# Altium integrated library Analog Devices Data Converters Digital-to-Analog Converters.IntLib: 2231 symbols (part 161 of 181)
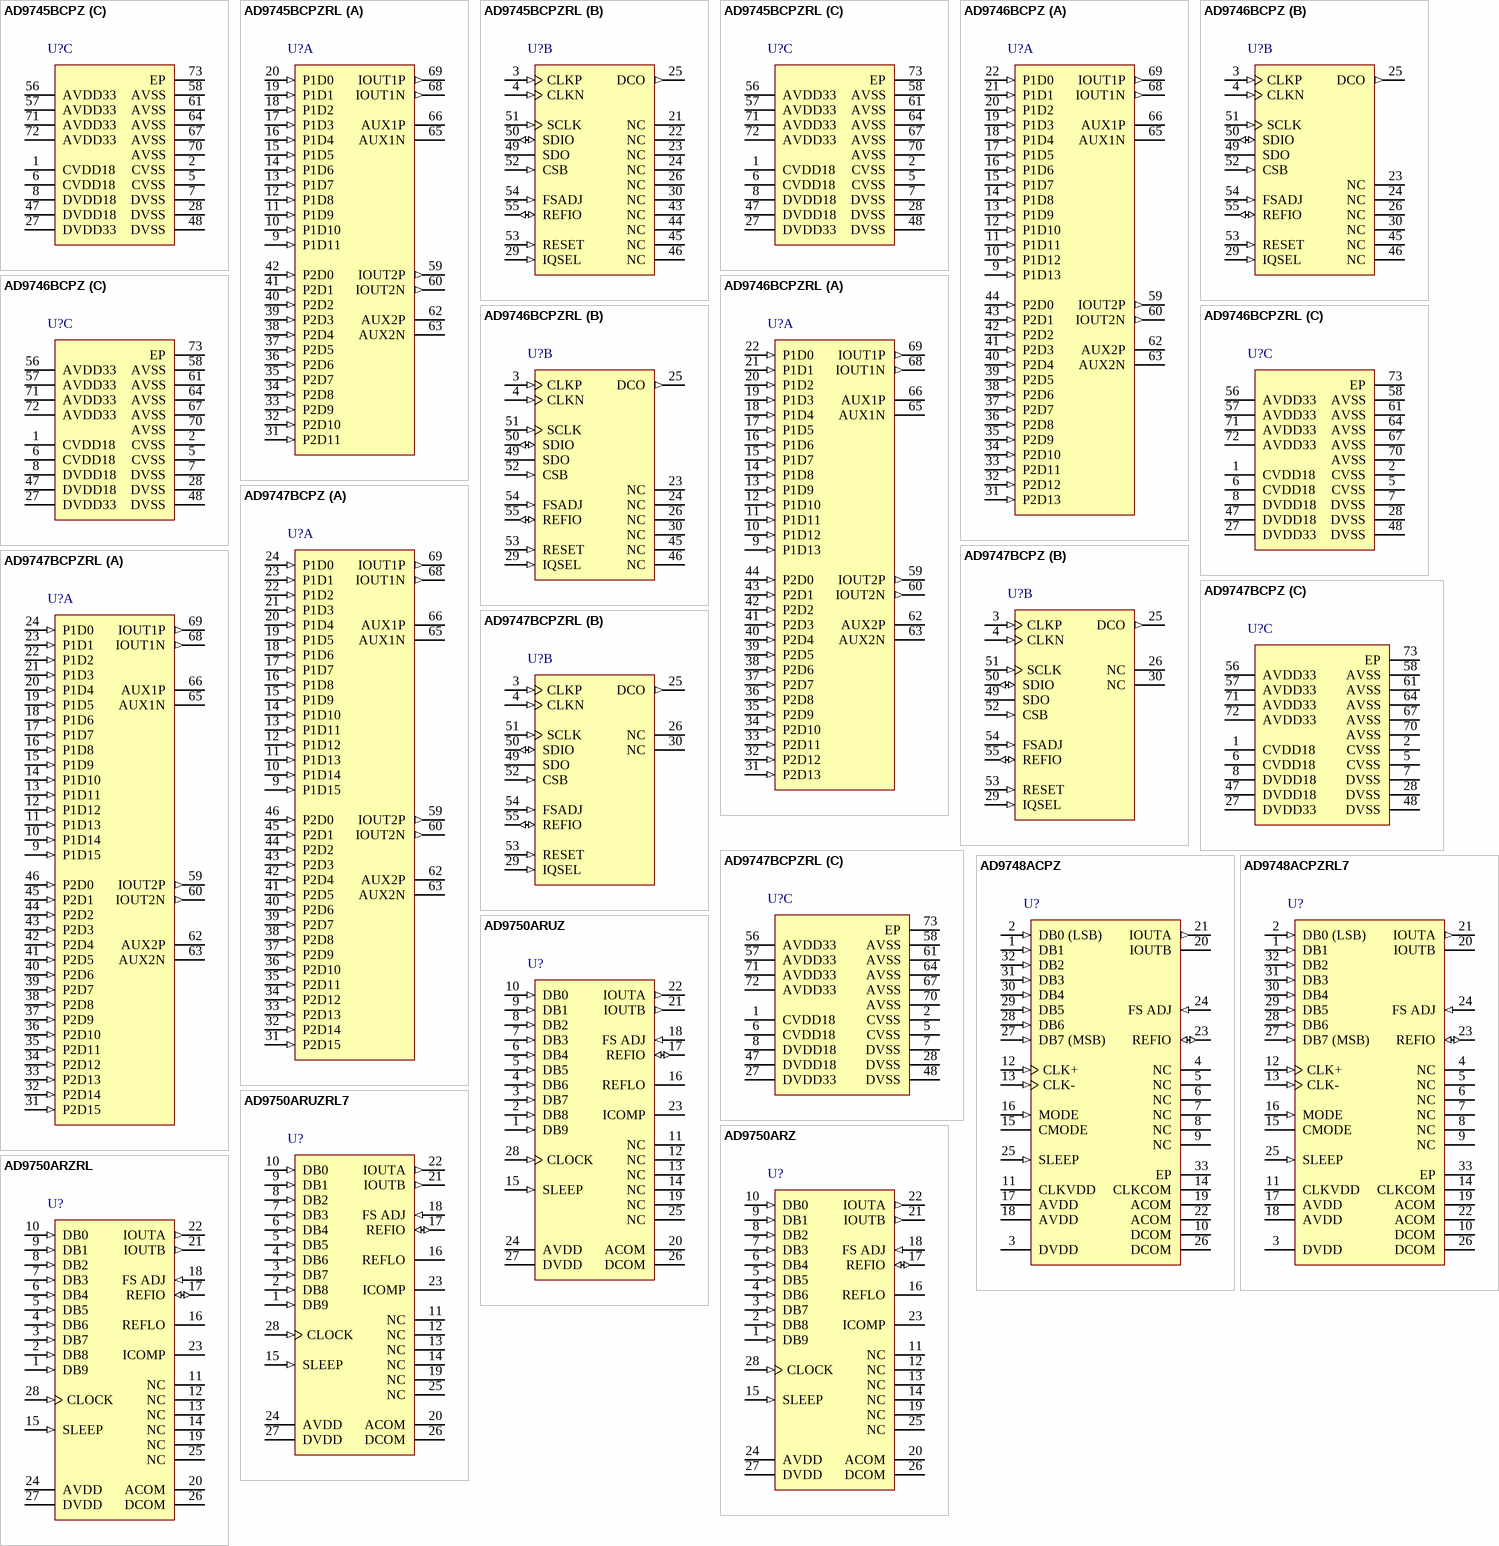
[diagram p274: symbols AD9745BCPZ to AD9750ARZRL]

## AD9748ACPZRL7
designator U?
Single 8-Bit TxDAC, 210 Msps, -40 to +85 degC, CP-32-2, Pb-Free, Reel; Generic Part Number: AD9748; Manufacturer: Analog Devices; PartNumber: AD9748ACPZRL7; # DAC Outputs: 1; Max V+: 3.6V; Op Pwr Diss: 145mW; Resolution (Bits): 8; Settling Time: 11ns; Single Supply: Yes; DatasheetVersion: Rev.A; PackageVersion: Jan-2005; PackageReference: CP-32-2; PackageDescription: 32-Lead Lead Frame Chip Scale Package [LFCSP_VQ] 5 x 5 mm Body, Very Thin Quad; Supplier 1: Digi-Key; Supplier Part Number 1: AD9748ACPZRL7-ND; Supplier 2: Newark; Supplier Part Number 2: 74R6039; Supplier 3: Mouser; Supplier Part Number 3: 584-AD9748ACPZR7; Packing: Reel; RoHS: Y; Mounting Technology: Surface Mount; Code_JEDEC: MO-220-VHHD-2; ComponentLink1Description: Manufacturer URL; ComponentLink1URL: http://www.analog.com/en/index.html; ComponentLink2Description: Datasheet; ComponentLink2URL: http://www.analog.com/static/imported-files/data_sheets/AD9748.pdf; ComponentLink3Description: Package Specification; ComponentLink3URL: http://www.analog.com/static/imported-files/packages/414143737956480539664569CP_32_2.pdf; ComponentLink4Description: Product URL; ComponentLink4URL: http://www.analog.com/en/digital-to-analog-converters/da-converters/ad9748/products/product.html
footprint CP-32-2_N (QFN, 32-Leads, Body 5x5mm, Pitch 0.5mm, Thermal Pad 3.1x3.1mm, IPC Medium Density)
footprint CP-32-2_L (QFN, 32-Leads, Body 5x5mm, Pitch 0.5mm, Thermal Pad 3.1x3.1mm, IPC High Density)
footprint CP-32-2_M (QFN, 32-Leads, Body 5x5mm, Pitch 0.5mm, Thermal Pad 3.1x3.1mm, IPC Low Density)
pins: 1 DB1 (in) "Data Bit 1.", 2 DB0 (LSB) (in) "Least Significant Data Bit (LSB).", 3 DVDD (power) "Digital Supply Voltage (3.3 V).", 4 NC "No Internal Connection.", 5 NC "No Internal Connection.", 6 NC "No Internal Connection.", 7 NC "No Internal Connection.", 8 NC "No Internal Connection.", 9 NC "No Internal Connection.", 10 DCOM (power) "Digital Common.", 11 CLKVDD (power) "Clock Supply Voltage (3.3 V).", 12 CLK+ (in) "Differential Clock Input.", 13 CLK- (in) "Differential Clock Input.", 14 CLKCOM (power) "Clock Common.", 15 CMODE "Clock Mode Selection. Connect to CLKCOM for single-ended clock receiver (drive CLK+ and float CLK-). Connect to CLKVDD for differential receiver. Float for PECL receiver (terminations on-chip).", 16 MODE (in) "Selects Input Data Format. Connect to DCOM for straight binary, DVDD for twos complement.", 17 AVDD (power) "Analog Supply Voltage (3.3 V).", 18 AVDD (power) "Analog Supply Voltage (3.3 V).", 19 ACOM (power) "Analog Common.", 20 IOUTB "Complementary DAC Current Output. Full-scale current when all data bits are 0s.", 21 IOUTA (out) "DAC Current Output. Full-scale current when all data bits are 1s.", 22 ACOM (power) "Analog Common.", 23 REFIO (io) "Reference Input/Output. Requires 0.1 uF capacitor to ACOM.", 24 FS ADJ (in) "Full-Scale Current Output Adjust.", 25 SLEEP (in) "Power-Down Control Input. Active high. Contains active pull-down circuit; it can be left unterminated if not used.", 26 DCOM (power) "Digital Common.", 27 DB7 (MSB) (in) "Most Significant Data Bit (MSB).", 28 DB6 (in) "Data Bit 2.", 29 DB5 (in) "Data Bit 3.", 30 DB4 (in) "Data Bit 4.", 31 DB3 (in) "Data Bit 5.", 32 DB2 (in) "Data Bit 6.", 33 EP "Exposed Pad."

## AD9750ARUZ
designator U?
Single 10-Bit TxDAC, 125 Msps, -40 to +85 degC, RU-28, Pb-Free, Tube; Generic Part Number: AD9750; Manufacturer: Analog Devices; PartNumber: AD9750ARUZ; # DAC Outputs: 1; Max V+: 5.5V; Op Pwr Diss: 230mW; Resolution (Bits): 10; Settling Time: 35ns; Single Supply: Yes; DatasheetVersion: Rev.0; PackageVersion: 2005; PackageReference: RU-28; PackageDescription: 28-Lead Thin Shrink Small Outline Package [TSSOP]; Supplier 1: Digi-Key; Supplier Part Number 1: AD9750ARUZ-ND; Supplier 2: Mouser; Supplier Part Number 2: 584-AD9750ARUZ; Packing: Tube; RoHS: Y; Mounting Technology: Surface Mount; Code_JEDEC: MO-153-AE; ComponentLink1Description: Manufacturer URL; ComponentLink1URL: http://www.analog.com/en/index.html; ComponentLink2Description: Datasheet; ComponentLink2URL: http://www.analog.com/static/imported-files/data_sheets/AD9750.pdf; ComponentLink3Description: Package Specification; ComponentLink3URL: http://www.analog.com/static/imported-files/packages/249854663RU_28.pdf; ComponentLink4Description: Product URL; ComponentLink4URL: http://www.analog.com/en/digital-to-analog-converters/da-converters/ad9750/products/product.html
footprint RU-28_N (TSOP, 28-Leads, Body 9.7x4.4mm, Pitch 0.65mm, IPC Medium Density)
footprint RU-28_L (TSOP, 28-Leads, Body 9.7x4.4mm, Pitch 0.65mm, IPC High Density)
footprint RU-28_M (TSOP, 28-Leads, Body 9.7x4.4mm, Pitch 0.65mm, IPC Low Density)
pins: 1 DB9 (in) "Most Significant Data Bit (MSB).", 2 DB8 (in) "Data Bit 8", 3 DB7 (in) "Data Bit 7", 4 DB6 (in) "Data Bit 6", 5 DB5 (in) "Data Bit 5", 6 DB4 (in) "Data Bit 4", 7 DB3 (in) "Data Bit 3", 8 DB2 (in) "Data Bit 2", 9 DB1 (in) "Data Bit 1", 10 DB0 (in) "Least Significant Data Bit (LSB).", 11 NC "No Internal Connection.", 12 NC "No Internal Connection.", 13 NC "No Internal Connection.", 14 NC "No Internal Connection.", 15 SLEEP (in) "Power-Down Control Input. Active High. Contains active pull-down circuit; it may be left unterminated if not used.", 16 REFLO "Reference Ground when Internal 1.2 V Reference Used. Connect to AVDD to disable internal reference.", 17 REFIO (io) "Reference Input/Output. Serves as reference input when internal reference disabled (i.e., Tie REFLO to AVDD). Serves as 1.2 V reference output when internal reference activated (i.e., Tie REFLO to ACOM). Requires 0.1 uF (See Datasheet)", 18 FS ADJ (in) "Full-Scale Current Output Adjust.", 19 NC "No Internal Connection.", 20 ACOM (power) "Analog Common.", 21 IOUTB (out) "Complementary DAC Current Output. Full-scale current when all data bits are 0s.", 22 IOUTA (out) "DAC Current Output. Full-scale current when all data bits are 1s.", 23 ICOMP "Internal Bias Node for Switch Driver Circuitry. Decouple to ACOM with 0.1 uF capacitor.", 24 AVDD (power) "Analog Supply Voltage (+4.5 V to +5.5 V).", 25 NC "No Internal Connection.", 26 DCOM (power) "Digital Common.", 27 DVDD (power) "Digital Supply Voltage (+2.7 V to +5.5 V).", 28 CLOCK (in) "Clock Input. Data latched on positive edge of clock."

## AD9750ARUZRL7
designator U?
Single 10-Bit TxDAC, 125 Msps, -40 to +85 degC, RU-28, Pb-Free, Reel; Generic Part Number: AD9750; Manufacturer: Analog Devices; PartNumber: AD9750ARUZRL7; # DAC Outputs: 1; Max V+: 5.5V; Op Pwr Diss: 230mW; Resolution (Bits): 10; Settling Time: 35ns; Single Supply: Yes; DatasheetVersion: Rev.0; PackageVersion: 2005; PackageReference: RU-28; PackageDescription: 28-Lead Thin Shrink Small Outline Package [TSSOP]; Supplier 1: Digi-Key; Supplier Part Number 1: AD9750ARUZRL7-ND; Supplier 2: Mouser; Supplier Part Number 2: 584-AD9750ARUZR7; Packing: Reel; RoHS: Y; Mounting Technology: Surface Mount; Code_JEDEC: MO-153-AE; ComponentLink1Description: Manufacturer URL; ComponentLink1URL: http://www.analog.com/en/index.html; ComponentLink2Description: Datasheet; ComponentLink2URL: http://www.analog.com/static/imported-files/data_sheets/AD9750.pdf; ComponentLink3Description: Package Specification; ComponentLink3URL: http://www.analog.com/static/imported-files/packages/249854663RU_28.pdf; ComponentLink4Description: Product URL; ComponentLink4URL: http://www.analog.com/en/digital-to-analog-converters/da-converters/ad9750/products/product.html
footprint RU-28_N (TSOP, 28-Leads, Body 9.7x4.4mm, Pitch 0.65mm, IPC Medium Density)
footprint RU-28_L (TSOP, 28-Leads, Body 9.7x4.4mm, Pitch 0.65mm, IPC High Density)
footprint RU-28_M (TSOP, 28-Leads, Body 9.7x4.4mm, Pitch 0.65mm, IPC Low Density)
pins: 1 DB9 (in) "Most Significant Data Bit (MSB).", 2 DB8 (in) "Data Bit 8", 3 DB7 (in) "Data Bit 7", 4 DB6 (in) "Data Bit 6", 5 DB5 (in) "Data Bit 5", 6 DB4 (in) "Data Bit 4", 7 DB3 (in) "Data Bit 3", 8 DB2 (in) "Data Bit 2", 9 DB1 (in) "Data Bit 1", 10 DB0 (in) "Least Significant Data Bit (LSB).", 11 NC "No Internal Connection.", 12 NC "No Internal Connection.", 13 NC "No Internal Connection.", 14 NC "No Internal Connection.", 15 SLEEP (in) "Power-Down Control Input. Active High. Contains active pull-down circuit; it may be left unterminated if not used.", 16 REFLO "Reference Ground when Internal 1.2 V Reference Used. Connect to AVDD to disable internal reference.", 17 REFIO (io) "Reference Input/Output. Serves as reference input when internal reference disabled (i.e., Tie REFLO to AVDD). Serves as 1.2 V reference output when internal reference activated (i.e., Tie REFLO to ACOM). Requires 0.1 uF (See Datasheet)", 18 FS ADJ (in) "Full-Scale Current Output Adjust.", 19 NC "No Internal Connection.", 20 ACOM (power) "Analog Common.", 21 IOUTB (out) "Complementary DAC Current Output. Full-scale current when all data bits are 0s.", 22 IOUTA (out) "DAC Current Output. Full-scale current when all data bits are 1s.", 23 ICOMP "Internal Bias Node for Switch Driver Circuitry. Decouple to ACOM with 0.1 uF capacitor.", 24 AVDD (power) "Analog Supply Voltage (+4.5 V to +5.5 V).", 25 NC "No Internal Connection.", 26 DCOM (power) "Digital Common.", 27 DVDD (power) "Digital Supply Voltage (+2.7 V to +5.5 V).", 28 CLOCK (in) "Clock Input. Data latched on positive edge of clock."

## AD9750ARZ
designator U?
Single 10-Bit TxDAC, 125 Msps, -40 to +85 degC, RW-28, Pb-Free, Tube; Generic Part Number: AD9750; Manufacturer: Analog Devices; PartNumber: AD9750ARZ; # DAC Outputs: 1; Max V+: 5.5V; Op Pwr Diss: 230mW; Resolution (Bits): 10; Settling Time: 35ns; Single Supply: Yes; DatasheetVersion: Rev.0; PackageVersion: 060706-A; PackageReference: RW-28; PackageDescription: 28-Lead Standard Small Outline Package [SOIC_W]; Supplier 1: Digi-Key; Supplier Part Number 1: AD9750ARZ-ND; Supplier 2: Newark; Supplier Part Number 2: 59K7355; Supplier 3: Mouser; Supplier Part Number 3: 584-AD9750ARZ; Packing: Tube; RoHS: Y; Mounting Technology: Surface Mount; Code_JEDEC: MS-013-AE; ComponentLink1Description: Manufacturer URL; ComponentLink1URL: http://www.analog.com/en/index.html; ComponentLink2Description: Datasheet; ComponentLink2URL: http://www.analog.com/static/imported-files/data_sheets/AD9750.pdf; ComponentLink3Description: Product URL; ComponentLink3URL: http://www.analog.com/en/digital-to-analog-converters/da-converters/ad9750/products/product.html
footprint RW-28_N (SOIC, 28-Leads, Body 17.9x7.5mm, Pitch 1.27mm, IPC Medium Density)
footprint RW-28_L (SOIC, 28-Leads, Body 17.9x7.5mm, Pitch 1.27mm, IPC High Density)
footprint RW-28_M (SOIC, 28-Leads, Body 17.9x7.5mm, Pitch 1.27mm, IPC Low Density)
pins: 1 DB9 (in) "Most Significant Data Bit (MSB).", 2 DB8 (in) "Data Bit 8", 3 DB7 (in) "Data Bit 7", 4 DB6 (in) "Data Bit 6", 5 DB5 (in) "Data Bit 5", 6 DB4 (in) "Data Bit 4", 7 DB3 (in) "Data Bit 3", 8 DB2 (in) "Data Bit 2", 9 DB1 (in) "Data Bit 1", 10 DB0 (in) "Least Significant Data Bit (LSB).", 11 NC "No Internal Connection.", 12 NC "No Internal Connection.", 13 NC "No Internal Connection.", 14 NC "No Internal Connection.", 15 SLEEP (in) "Power-Down Control Input. Active High. Contains active pull-down circuit; it may be left unterminated if not used.", 16 REFLO "Reference Ground when Internal 1.2 V Reference Used. Connect to AVDD to disable internal reference.", 17 REFIO (io) "Reference Input/Output. Serves as reference input when internal reference disabled (i.e., Tie REFLO to AVDD). Serves as 1.2 V reference output when internal reference activated (i.e., Tie REFLO to ACOM). Requires 0.1 uF (See Datasheet)", 18 FS ADJ (in) "Full-Scale Current Output Adjust.", 19 NC "No Internal Connection.", 20 ACOM (power) "Analog Common.", 21 IOUTB (out) "Complementary DAC Current Output. Full-scale current when all data bits are 0s.", 22 IOUTA (out) "DAC Current Output. Full-scale current when all data bits are 1s.", 23 ICOMP "Internal Bias Node for Switch Driver Circuitry. Decouple to ACOM with 0.1 uF capacitor.", 24 AVDD (power) "Analog Supply Voltage (+4.5 V to +5.5 V).", 25 NC "No Internal Connection.", 26 DCOM (power) "Digital Common.", 27 DVDD (power) "Digital Supply Voltage (+2.7 V to +5.5 V).", 28 CLOCK (in) "Clock Input. Data latched on positive edge of clock."

## AD9750ARZRL
designator U?
Single 10-Bit TxDAC, 125 Msps, -40 to +85 degC, RW-28, Pb-Free, Reel; Generic Part Number: AD9750; Manufacturer: Analog Devices; PartNumber: AD9750ARZRL; # DAC Outputs: 1; Max V+: 5.5V; Op Pwr Diss: 230mW; Resolution (Bits): 10; Settling Time: 35ns; Single Supply: Yes; DatasheetVersion: Rev.0; PackageVersion: 060706-A; PackageReference: RW-28; PackageDescription: 28-Lead Standard Small Outline Package [SOIC_W]; Supplier 1: Digi-Key; Supplier Part Number 1: AD9750ARZRL-ND; Supplier 2: Mouser; Supplier Part Number 2: 584-AD9750ARZR; Packing: Reel; RoHS: Y; Mounting Technology: Surface Mount; Code_JEDEC: MS-013-AE; ComponentLink1Description: Manufacturer URL; ComponentLink1URL: http://www.analog.com/en/index.html; ComponentLink2Description: Datasheet; ComponentLink2URL: http://www.analog.com/static/imported-files/data_sheets/AD9750.pdf; ComponentLink3Description: Product URL; ComponentLink3URL: http://www.analog.com/en/digital-to-analog-converters/da-converters/ad9750/products/product.html
footprint RW-28_N (SOIC, 28-Leads, Body 17.9x7.5mm, Pitch 1.27mm, IPC Medium Density)
footprint RW-28_L (SOIC, 28-Leads, Body 17.9x7.5mm, Pitch 1.27mm, IPC High Density)
footprint RW-28_M (SOIC, 28-Leads, Body 17.9x7.5mm, Pitch 1.27mm, IPC Low Density)
pins: 1 DB9 (in) "Most Significant Data Bit (MSB).", 2 DB8 (in) "Data Bit 8", 3 DB7 (in) "Data Bit 7", 4 DB6 (in) "Data Bit 6", 5 DB5 (in) "Data Bit 5", 6 DB4 (in) "Data Bit 4", 7 DB3 (in) "Data Bit 3", 8 DB2 (in) "Data Bit 2", 9 DB1 (in) "Data Bit 1", 10 DB0 (in) "Least Significant Data Bit (LSB).", 11 NC "No Internal Connection.", 12 NC "No Internal Connection.", 13 NC "No Internal Connection.", 14 NC "No Internal Connection.", 15 SLEEP (in) "Power-Down Control Input. Active High. Contains active pull-down circuit; it may be left unterminated if not used.", 16 REFLO "Reference Ground when Internal 1.2 V Reference Used. Connect to AVDD to disable internal reference.", 17 REFIO (io) "Reference Input/Output. Serves as reference input when internal reference disabled (i.e., Tie REFLO to AVDD). Serves as 1.2 V reference output when internal reference activated (i.e., Tie REFLO to ACOM). Requires 0.1 uF (See Datasheet)", 18 FS ADJ (in) "Full-Scale Current Output Adjust.", 19 NC "No Internal Connection.", 20 ACOM (power) "Analog Common.", 21 IOUTB (out) "Complementary DAC Current Output. Full-scale current when all data bits are 0s.", 22 IOUTA (out) "DAC Current Output. Full-scale current when all data bits are 1s.", 23 ICOMP "Internal Bias Node for Switch Driver Circuitry. Decouple to ACOM with 0.1 uF capacitor.", 24 AVDD (power) "Analog Supply Voltage (+4.5 V to +5.5 V).", 25 NC "No Internal Connection.", 26 DCOM (power) "Digital Common.", 27 DVDD (power) "Digital Supply Voltage (+2.7 V to +5.5 V).", 28 CLOCK (in) "Clock Input. Data latched on positive edge of clock."

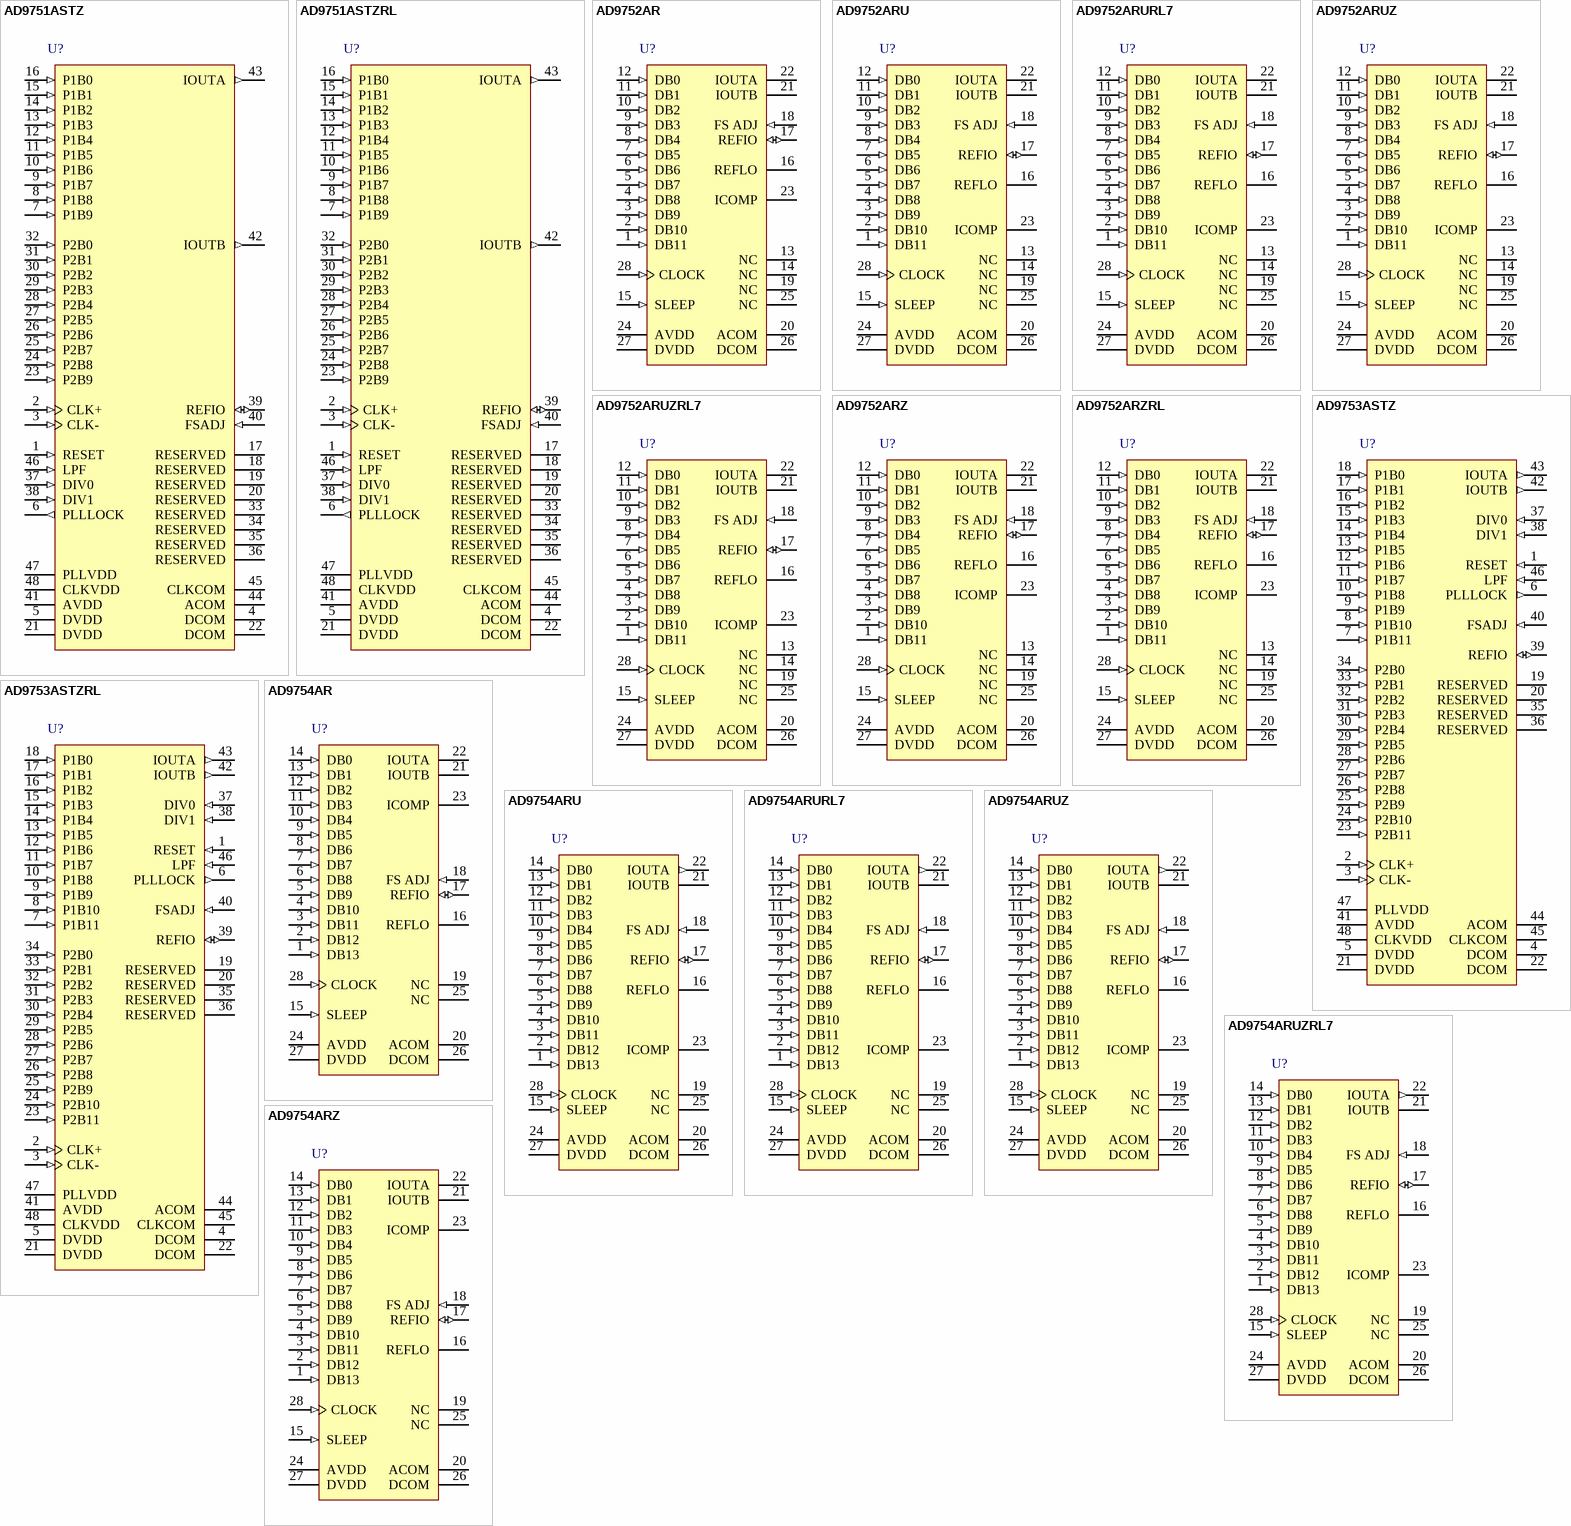
[diagram p97: symbols AD9751ASTZ to AD9754ARZ]

## AD9751ASTZ
designator U?
Single 10-Bit TxDAC+, 300 Msps, -40 to +85 degC, ST-48, Pb-Free, Tray; Generic Part Number: AD9751; Manufacturer: Analog Devices; PartNumber: AD9751ASTZ; # DAC Outputs: 1; Max V+: 3.6V; Op Pwr Diss: 165mW; Resolution (Bits): 10; Settling Time: 11ns; Single Supply: Yes; DatasheetVersion: Rev.C; PackageVersion: revA; PackageReference: ST-48; PackageDescription: 48-Pin Thin Quad Flat Pack 0.5 mm Pitch; Supplier 1: Digi-Key; Supplier Part Number 1: AD9751ASTZ-ND; Supplier 2: Mouser; Supplier Part Number 2: 584-AD9751ASTZ; Packing: Tray; RoHS: Y; Mounting Technology: Surface Mount; ComponentLink1Description: Manufacturer URL; ComponentLink1URL: http://www.analog.com/en/index.html; ComponentLink2Description: Datasheet; ComponentLink2URL: http://www.analog.com/static/imported-files/data_sheets/AD9751.pdf; ComponentLink3Description: Package Specification; ComponentLink3URL: http://www.analog.com/static/imported-files/packages/PKG_PDF/LQFP%28ST%29/ST_48.pdf; ComponentLink4Description: Product URL; ComponentLink4URL: http://www.analog.com/en/digital-to-analog-converters/da-converters/ad9751/products/product.html
footprint ST-48_N (Thin QFP, 48-Leads, Body 7x7mm, Pitch 0.5mm, IPC Medium Density)
footprint ST-48_L (Thin QFP, 48-Leads, Body 7x7mm, Pitch 0.5mm, IPC High Density)
footprint ST-48_M (Thin QFP, 48-Leads, Body 7x7mm, Pitch 0.5mm, IPC Low Density)
pins: 1 RESET (in) "Internal Clock Divider Reset", 2 CLK+ (in) "Differential Clock Input", 3 CLK- (in) "Differential Clock Input", 4 DCOM (power) "Digital Common", 5 DVDD (power) "Digital Supply Voltage", 6 PLLLOCK (out) "Phase-Locked Loop Lock Indicator Output", 7 P1B9 (in) "Data Bit 9, Port 1", 8 P1B8 (in) "Data Bit 8, Port 1", 9 P1B7 (in) "Data Bit 7, Port 1", 10 P1B6 (in) "Data Bit 6, Port 1", 11 P1B5 (in) "Data Bit 5, Port 1", 12 P1B4 (in) "Data Bit 4, Port 1", 13 P1B3 (in) "Data Bit 3, Port 1", 14 P1B2 (in) "Data Bit 2, Port 1", 15 P1B1 (in) "Data Bit 1, Port 1", 16 P1B0 (in) "Data Bit 0, Port 1", 17 RESERVED "No user connections", 18 RESERVED "No user connections", 19 RESERVED "No user connections", 20 RESERVED "No user connections", 21 DVDD (power) "Digital Supply Voltage", 22 DCOM (power) "Digital Common", 23 P2B9 (in) "Data Bit 9, Port 2", 24 P2B8 (in) "Data Bit 8, Port 2", 25 P2B7 (in) "Data Bit 7, Port 2", 26 P2B6 (in) "Data Bit 6, Port 2", 27 P2B5 (in) "Data Bit 5, Port 2", 28 P2B4 (in) "Data Bit 4, Port 2", 29 P2B3 (in) "Data Bit 3, Port 2", 30 P2B2 (in) "Data Bit 2, Port 2", 31 P2B1 (in) "Data Bit 1, Port 2", 32 P2B0 (in) "Data Bit 0, Port 2", 33 RESERVED "No user connections", 34 RESERVED "No user connections", 35 RESERVED "No user connections", 36 RESERVED "No user connections", 37 DIV0 (in) "Control Inputs for PLL and Input Port Selector Mode; see Tables I and II for details.", 38 DIV1 (in) "Control Inputs for PLL and Input Port Selector Mode; see Tables I and II for details.", 39 REFIO (io) "Reference Input/Output", 40 FSADJ (in) "Full-Scale Current Output Adjust", 41 AVDD (power) "Analog Supply Voltage", 42 IOUTB (out) "Differential DAC Current Output", 43 IOUTA (out) "Differential DAC Current Output", 44 ACOM (power) "Analog Common", 45 CLKCOM (power) "Clock and Phase-Locked Loop Common", 46 LPF (in) "Phase-Locked Loop Filter", 47 PLLVDD (power) "Phase-Locked Loop Supply Voltage", 48 CLKVDD (power) "Clock Supply Voltage"

## AD9751ASTZRL
designator U?
Single 10-Bit TxDAC+, 300 Msps, -40 to +85 degC, ST-48, Pb-Free, Reel; Generic Part Number: AD9751; Manufacturer: Analog Devices; PartNumber: AD9751ASTZRL; # DAC Outputs: 1; Max V+: 3.6V; Op Pwr Diss: 165mW; Resolution (Bits): 10; Settling Time: 11ns; Single Supply: Yes; DatasheetVersion: Rev.C; PackageVersion: revA; PackageReference: ST-48; PackageDescription: 48-Pin Thin Quad Flat Pack 0.5 mm Pitch; Supplier 1: Digi-Key; Supplier Part Number 1: AD9751ASTZRL-ND; Supplier 2: Mouser; Supplier Part Number 2: 584-AD9751ASTZR; Packing: Reel; RoHS: Y; Mounting Technology: Surface Mount; ComponentLink1Description: Manufacturer URL; ComponentLink1URL: http://www.analog.com/en/index.html; ComponentLink2Description: Datasheet; ComponentLink2URL: http://www.analog.com/static/imported-files/data_sheets/AD9751.pdf; ComponentLink3Description: Package Specification; ComponentLink3URL: http://www.analog.com/static/imported-files/packages/PKG_PDF/LQFP%28ST%29/ST_48.pdf; ComponentLink4Description: Product URL; ComponentLink4URL: http://www.analog.com/en/digital-to-analog-converters/da-converters/ad9751/products/product.html
footprint ST-48_N (Thin QFP, 48-Leads, Body 7x7mm, Pitch 0.5mm, IPC Medium Density)
footprint ST-48_L (Thin QFP, 48-Leads, Body 7x7mm, Pitch 0.5mm, IPC High Density)
footprint ST-48_M (Thin QFP, 48-Leads, Body 7x7mm, Pitch 0.5mm, IPC Low Density)
pins: 1 RESET (in) "Internal Clock Divider Reset", 2 CLK+ (in) "Differential Clock Input", 3 CLK- (in) "Differential Clock Input", 4 DCOM (power) "Digital Common", 5 DVDD (power) "Digital Supply Voltage", 6 PLLLOCK (out) "Phase-Locked Loop Lock Indicator Output", 7 P1B9 (in) "Data Bit 9, Port 1", 8 P1B8 (in) "Data Bit 8, Port 1", 9 P1B7 (in) "Data Bit 7, Port 1", 10 P1B6 (in) "Data Bit 6, Port 1", 11 P1B5 (in) "Data Bit 5, Port 1", 12 P1B4 (in) "Data Bit 4, Port 1", 13 P1B3 (in) "Data Bit 3, Port 1", 14 P1B2 (in) "Data Bit 2, Port 1", 15 P1B1 (in) "Data Bit 1, Port 1", 16 P1B0 (in) "Data Bit 0, Port 1", 17 RESERVED "No user connections", 18 RESERVED "No user connections", 19 RESERVED "No user connections", 20 RESERVED "No user connections", 21 DVDD (power) "Digital Supply Voltage", 22 DCOM (power) "Digital Common", 23 P2B9 (in) "Data Bit 9, Port 2", 24 P2B8 (in) "Data Bit 8, Port 2", 25 P2B7 (in) "Data Bit 7, Port 2", 26 P2B6 (in) "Data Bit 6, Port 2", 27 P2B5 (in) "Data Bit 5, Port 2", 28 P2B4 (in) "Data Bit 4, Port 2", 29 P2B3 (in) "Data Bit 3, Port 2", 30 P2B2 (in) "Data Bit 2, Port 2", 31 P2B1 (in) "Data Bit 1, Port 2", 32 P2B0 (in) "Data Bit 0, Port 2", 33 RESERVED "No user connections", 34 RESERVED "No user connections", 35 RESERVED "No user connections", 36 RESERVED "No user connections", 37 DIV0 (in) "Control Inputs for PLL and Input Port Selector Mode; see Tables I and II for details.", 38 DIV1 (in) "Control Inputs for PLL and Input Port Selector Mode; see Tables I and II for details.", 39 REFIO (io) "Reference Input/Output", 40 FSADJ (in) "Full-Scale Current Output Adjust", 41 AVDD (power) "Analog Supply Voltage", 42 IOUTB (out) "Differential DAC Current Output", 43 IOUTA (out) "Differential DAC Current Output", 44 ACOM (power) "Analog Common", 45 CLKCOM (power) "Clock and Phase-Locked Loop Common", 46 LPF (in) "Phase-Locked Loop Filter", 47 PLLVDD (power) "Phase-Locked Loop Supply Voltage", 48 CLKVDD (power) "Clock Supply Voltage"

## AD9752AR
designator U?
Single 12-Bit TxDAC, 125 Msps, -40 to +85 degC, RW-28, Tube; Generic Part Number: AD9752; Manufacturer: Analog Devices; PartNumber: AD9752AR; # DAC Outputs: 1; Max V+: 5.5V; Op Pwr Diss: 220mW; Resolution (Bits): 12; Settling Time: 35ns; Single Supply: Yes; DatasheetVersion: Rev.0; PackageVersion: 060706-A; PackageReference: RW-28; PackageDescription: 28-Lead Standard Small Outline Package [SOIC_W]; Supplier 1: Digi-Key; Supplier Part Number 1: AD9752AR-ND; Supplier 2: Mouser; Supplier Part Number 2: 584-AD9752AR; Packing: Tube; RoHS: N; Mounting Technology: Surface Mount; Code_JEDEC: MS-013-AE; ComponentLink1Description: Manufacturer URL; ComponentLink1URL: http://www.analog.com/en/index.html; ComponentLink2Description: Datasheet; ComponentLink2URL: http://www.analog.com/static/imported-files/data_sheets/AD9752.pdf; ComponentLink3Description: Product URL; ComponentLink3URL: http://www.analog.com/en/digital-to-analog-converters/da-converters/ad9752/products/product.html
footprint RW-28_N (SOIC, 28-Leads, Body 17.9x7.5mm, Pitch 1.27mm, IPC Medium Density)
footprint RW-28_L (SOIC, 28-Leads, Body 17.9x7.5mm, Pitch 1.27mm, IPC High Density)
footprint RW-28_M (SOIC, 28-Leads, Body 17.9x7.5mm, Pitch 1.27mm, IPC Low Density)
pins: 1 DB11 (in) "Most Significant Data Bit (MSB).", 2 DB10 (in) "Data Bit 10", 3 DB9 (in) "Data Bit 9", 4 DB8 (in) "Data Bit 8", 5 DB7 (in) "Data Bit 7", 6 DB6 (in) "Data Bit 6", 7 DB5 (in) "Data Bit 5", 8 DB4 (in) "Data Bit 4", 9 DB3 (in) "Data Bit 3", 10 DB2 (in) "Data Bit 2", 11 DB1 (in) "Data Bit 1", 12 DB0 (in) "Least Significant Data Bit (LSB).", 13 NC "No Internal Connection.", 14 NC "No Internal Connection.", 15 SLEEP (in) "Power-Down Control Input. Active High. Contains active pull-down circuit; it may be left unterminated if not used.", 16 REFLO "Reference Ground when Internal 1.2 V Reference Used. Connect to AVDD to disable internal reference.", 17 REFIO (io) "Reference Input/Output. Serves as reference input when internal reference disabled (i.e., Tie REFLO to AVDD). Serves as 1.2 V reference output when internal reference activated (i.e., Tie REFLO to ACOM). Requires 0.1 uF (See Datasheet)", 18 FS ADJ (in) "Full-Scale Current Output Adjust.", 19 NC "No Internal Connection.", 20 ACOM (power) "Analog Common.", 21 IOUTB (hiz) "Complementary DAC Current Output. Full-scale current when all data bits are 0s.", 22 IOUTA (hiz) "DAC Current Output. Full-scale current when all data bits are 1s.", 23 ICOMP "Internal Bias Node for Switch Driver Circuitry. Decouple to ACOM with 0.1 uF capacitor.", 24 AVDD (power) "Analog Supply Voltage (+4.5 V to +5.5 V).", 25 NC "No Internal Connection.", 26 DCOM (power) "Digital Common.", 27 DVDD (power) "Digital Supply Voltage (+2.7 V to +5.5 V).", 28 CLOCK (in) "Clock Input. Data latched on positive edge of clock."

## AD9752ARU
designator U?
Single 12-Bit TxDAC, 125 Msps, -40 to +85 degC, RU-28, Tube; Generic Part Number: AD9752; Manufacturer: Analog Devices; PartNumber: AD9752ARU; # DAC Outputs: 1; Max V+: 5.5V; Op Pwr Diss: 220mW; Resolution (Bits): 12; Settling Time: 35ns; Single Supply: Yes; DatasheetVersion: Rev.0; PackageVersion: 2005; PackageReference: RU-28; PackageDescription: 28-Lead Thin Shrink Small Outline Package [TSSOP]; Supplier 1: Digi-Key; Supplier Part Number 1: AD9752ARU-ND; Supplier 2: Mouser; Supplier Part Number 2: 584-AD9752ARU; Packing: Tube; RoHS: N; Mounting Technology: Surface Mount; Code_JEDEC: MO-153-AE; ComponentLink1Description: Manufacturer URL; ComponentLink1URL: http://www.analog.com/en/index.html; ComponentLink2Description: Datasheet; ComponentLink2URL: http://www.analog.com/static/imported-files/data_sheets/AD9752.pdf; ComponentLink3Description: Package Specification; ComponentLink3URL: http://www.analog.com/static/imported-files/packages/249854663RU_28.pdf; ComponentLink4Description: Product URL; ComponentLink4URL: http://www.analog.com/en/digital-to-analog-converters/da-converters/ad9752/products/product.html
footprint RU-28_N (TSOP, 28-Leads, Body 9.7x4.4mm, Pitch 0.65mm, IPC Medium Density)
footprint RU-28_L (TSOP, 28-Leads, Body 9.7x4.4mm, Pitch 0.65mm, IPC High Density)
footprint RU-28_M (TSOP, 28-Leads, Body 9.7x4.4mm, Pitch 0.65mm, IPC Low Density)
pins: 1 DB11 (in) "Most Significant Data Bit (MSB).", 2 DB10 (in) "Data Bit 10.", 3 DB9 (in) "Data Bit 9.", 4 DB8 (in) "Data Bit 8.", 5 DB7 (in) "Data Bit 7.", 6 DB6 (in) "Data Bit 6.", 7 DB5 (in) "Data Bit 5.", 8 DB4 (in) "Data Bit 4.", 9 DB3 (in) "Data Bit 3.", 10 DB2 (in) "Data Bit 2.", 11 DB1 (in) "Data Bit 1.", 12 DB0 (in) "Least Significant Data Bit (LSB).", 13 NC "No Internal Connection.", 14 NC "No Internal Connection.", 15 SLEEP (in) "Power-Down Control Input. Active High. Contains active pull-down circuit; it may be left unterminated if not used.", 16 REFLO "Reference Ground when Internal 1.2 V Reference Used. Connect to AVDD to disable internal reference.", 17 REFIO (io) "Reference Input/Output. Serves as reference input when internal reference disabled (i.e., Tie REFLO to AVDD). Serves as 1.2 V reference output when internal reference activated (i.e., Tie REFLO to ACOM). Requires 0.1 uF (See Datasheet)", 18 FS ADJ (in) "Full-Scale Current Output Adjust.", 19 NC "No Internal Connection.", 20 ACOM (power) "Analog Common.", 21 IOUTB (hiz) "Complementary DAC Current Output. Full-scale current when all data bits are 0s.", 22 IOUTA (hiz) "DAC Current Output. Full-scale current when all data bits are 1s.", 23 ICOMP "Internal Bias Node for Switch Driver Circuitry. Decouple to ACOM with 0.1 uF capacitor.", 24 AVDD (power) "Analog Supply Voltage (+4.5 V to +5.5 V).", 25 NC "No Internal Connection.", 26 DCOM (power) "Digital Common.", 27 DVDD (power) "Digital Supply Voltage (+2.7 V to +5.5 V).", 28 CLOCK (in) "Clock Input. Data latched on positive edge of clock."

## AD9752ARURL7
designator U?
Single 12-Bit TxDAC, 125 Msps, -40 to +85 degC, RU-28, Reel; Generic Part Number: AD9752; Manufacturer: Analog Devices; PartNumber: AD9752ARURL7; # DAC Outputs: 1; Max V+: 5.5V; Op Pwr Diss: 220mW; Resolution (Bits): 12; Settling Time: 35ns; Single Supply: Yes; DatasheetVersion: Rev.0; PackageVersion: 2005; PackageReference: RU-28; PackageDescription: 28-Lead Thin Shrink Small Outline Package [TSSOP]; Supplier 1: Digi-Key; Supplier Part Number 1: AD9752ARURL7-ND; Supplier 2: Mouser; Supplier Part Number 2: 584-AD9752ARUR7; Packing: Reel; RoHS: N; Mounting Technology: Surface Mount; Code_JEDEC: MO-153-AE; ComponentLink1Description: Manufacturer URL; ComponentLink1URL: http://www.analog.com/en/index.html; ComponentLink2Description: Datasheet; ComponentLink2URL: http://www.analog.com/static/imported-files/data_sheets/AD9752.pdf; ComponentLink3Description: Package Specification; ComponentLink3URL: http://www.analog.com/static/imported-files/packages/249854663RU_28.pdf; ComponentLink4Description: Product URL; ComponentLink4URL: http://www.analog.com/en/digital-to-analog-converters/da-converters/ad9752/products/product.html
footprint RU-28_N (TSOP, 28-Leads, Body 9.7x4.4mm, Pitch 0.65mm, IPC Medium Density)
footprint RU-28_L (TSOP, 28-Leads, Body 9.7x4.4mm, Pitch 0.65mm, IPC High Density)
footprint RU-28_M (TSOP, 28-Leads, Body 9.7x4.4mm, Pitch 0.65mm, IPC Low Density)
pins: 1 DB11 (in) "Most Significant Data Bit (MSB).", 2 DB10 (in) "Data Bit 10.", 3 DB9 (in) "Data Bit 9.", 4 DB8 (in) "Data Bit 8.", 5 DB7 (in) "Data Bit 7.", 6 DB6 (in) "Data Bit 6.", 7 DB5 (in) "Data Bit 5.", 8 DB4 (in) "Data Bit 4.", 9 DB3 (in) "Data Bit 3.", 10 DB2 (in) "Data Bit 2.", 11 DB1 (in) "Data Bit 1.", 12 DB0 (in) "Least Significant Data Bit (LSB).", 13 NC "No Internal Connection.", 14 NC "No Internal Connection.", 15 SLEEP (in) "Power-Down Control Input. Active High. Contains active pull-down circuit; it may be left unterminated if not used.", 16 REFLO "Reference Ground when Internal 1.2 V Reference Used. Connect to AVDD to disable internal reference.", 17 REFIO (io) "Reference Input/Output. Serves as reference input when internal reference disabled (i.e., Tie REFLO to AVDD). Serves as 1.2 V reference output when internal reference activated (i.e., Tie REFLO to ACOM). Requires 0.1 uF (See Datasheet)", 18 FS ADJ (in) "Full-Scale Current Output Adjust.", 19 NC "No Internal Connection.", 20 ACOM (power) "Analog Common.", 21 IOUTB (hiz) "Complementary DAC Current Output. Full-scale current when all data bits are 0s.", 22 IOUTA (hiz) "DAC Current Output. Full-scale current when all data bits are 1s.", 23 ICOMP "Internal Bias Node for Switch Driver Circuitry. Decouple to ACOM with 0.1 uF capacitor.", 24 AVDD (power) "Analog Supply Voltage (+4.5 V to +5.5 V).", 25 NC "No Internal Connection.", 26 DCOM (power) "Digital Common.", 27 DVDD (power) "Digital Supply Voltage (+2.7 V to +5.5 V).", 28 CLOCK (in) "Clock Input. Data latched on positive edge of clock."

## AD9752ARUZ
designator U?
Single 12-Bit TxDAC, 125 Msps, -40 to +85 degC, RU-28, Pb-Free, Tube; Generic Part Number: AD9752; Manufacturer: Analog Devices; PartNumber: AD9752ARUZ; # DAC Outputs: 1; Max V+: 5.5V; Op Pwr Diss: 220mW; Resolution (Bits): 12; Settling Time: 35ns; Single Supply: Yes; DatasheetVersion: Rev.0; PackageVersion: 2005; PackageReference: RU-28; PackageDescription: 28-Lead Thin Shrink Small Outline Package [TSSOP]; Supplier 1: Digi-Key; Supplier Part Number 1: AD9752ARUZ-ND; Supplier 2: Newark; Supplier Part Number 2: 59K7359; Supplier 3: Mouser; Supplier Part Number 3: 584-AD9752ARUZ; Packing: Tube; RoHS: Y; Mounting Technology: Surface Mount; Code_JEDEC: MO-153-AE; ComponentLink1Description: Manufacturer URL; ComponentLink1URL: http://www.analog.com/en/index.html; ComponentLink2Description: Datasheet; ComponentLink2URL: http://www.analog.com/static/imported-files/data_sheets/AD9752.pdf; ComponentLink3Description: Package Specification; ComponentLink3URL: http://www.analog.com/static/imported-files/packages/249854663RU_28.pdf; ComponentLink4Description: Product URL; ComponentLink4URL: http://www.analog.com/en/digital-to-analog-converters/da-converters/ad9752/products/product.html
footprint RU-28_N (TSOP, 28-Leads, Body 9.7x4.4mm, Pitch 0.65mm, IPC Medium Density)
footprint RU-28_L (TSOP, 28-Leads, Body 9.7x4.4mm, Pitch 0.65mm, IPC High Density)
footprint RU-28_M (TSOP, 28-Leads, Body 9.7x4.4mm, Pitch 0.65mm, IPC Low Density)
pins: 1 DB11 (in) "Most Significant Data Bit (MSB).", 2 DB10 (in) "Data Bit 10.", 3 DB9 (in) "Data Bit 9.", 4 DB8 (in) "Data Bit 8.", 5 DB7 (in) "Data Bit 7.", 6 DB6 (in) "Data Bit 6.", 7 DB5 (in) "Data Bit 5.", 8 DB4 (in) "Data Bit 4.", 9 DB3 (in) "Data Bit 3.", 10 DB2 (in) "Data Bit 2.", 11 DB1 (in) "Data Bit 1.", 12 DB0 (in) "Least Significant Data Bit (LSB).", 13 NC "No Internal Connection.", 14 NC "No Internal Connection.", 15 SLEEP (in) "Power-Down Control Input. Active High. Contains active pull-down circuit; it may be left unterminated if not used.", 16 REFLO "Reference Ground when Internal 1.2 V Reference Used. Connect to AVDD to disable internal reference.", 17 REFIO (io) "Reference Input/Output. Serves as reference input when internal reference disabled (i.e., Tie REFLO to AVDD). Serves as 1.2 V reference output when internal reference activated (i.e., Tie REFLO to ACOM). Requires 0.1 uF (See Datasheet)", 18 FS ADJ (in) "Full-Scale Current Output Adjust.", 19 NC "No Internal Connection.", 20 ACOM (power) "Analog Common.", 21 IOUTB (hiz) "Complementary DAC Current Output. Full-scale current when all data bits are 0s.", 22 IOUTA (hiz) "DAC Current Output. Full-scale current when all data bits are 1s.", 23 ICOMP "Internal Bias Node for Switch Driver Circuitry. Decouple to ACOM with 0.1 uF capacitor.", 24 AVDD (power) "Analog Supply Voltage (+4.5 V to +5.5 V).", 25 NC "No Internal Connection.", 26 DCOM (power) "Digital Common.", 27 DVDD (power) "Digital Supply Voltage (+2.7 V to +5.5 V).", 28 CLOCK (in) "Clock Input. Data latched on positive edge of clock."

## AD9752ARUZRL7
designator U?
Single 12-Bit TxDAC, 125 Msps, -40 to +85 degC, RU-28, Pb-Free, Reel; Generic Part Number: AD9752; Manufacturer: Analog Devices; PartNumber: AD9752ARUZRL7; # DAC Outputs: 1; Max V+: 5.5V; Op Pwr Diss: 220mW; Resolution (Bits): 12; Settling Time: 35ns; Single Supply: Yes; DatasheetVersion: Rev.0; PackageVersion: 2005; PackageReference: RU-28; PackageDescription: 28-Lead Thin Shrink Small Outline Package [TSSOP]; Supplier 1: Digi-Key; Supplier Part Number 1: AD9752ARUZRL7-ND; Supplier 2: Newark; Supplier Part Number 2: 59K7360; Supplier 3: Mouser; Supplier Part Number 3: 584-AD9752ARUZR7; Packing: Reel; RoHS: Y; Mounting Technology: Surface Mount; Code_JEDEC: MO-153-AE; ComponentLink1Description: Manufacturer URL; ComponentLink1URL: http://www.analog.com/en/index.html; ComponentLink2Description: Datasheet; ComponentLink2URL: http://www.analog.com/static/imported-files/data_sheets/AD9752.pdf; ComponentLink3Description: Package Specification; ComponentLink3URL: http://www.analog.com/static/imported-files/packages/249854663RU_28.pdf; ComponentLink4Description: Product URL; ComponentLink4URL: http://www.analog.com/en/digital-to-analog-converters/da-converters/ad9752/products/product.html
footprint RU-28_N (TSOP, 28-Leads, Body 9.7x4.4mm, Pitch 0.65mm, IPC Medium Density)
footprint RU-28_L (TSOP, 28-Leads, Body 9.7x4.4mm, Pitch 0.65mm, IPC High Density)
footprint RU-28_M (TSOP, 28-Leads, Body 9.7x4.4mm, Pitch 0.65mm, IPC Low Density)
pins: 1 DB11 (in) "Most Significant Data Bit (MSB).", 2 DB10 (in) "Data Bit 10.", 3 DB9 (in) "Data Bit 9.", 4 DB8 (in) "Data Bit 8.", 5 DB7 (in) "Data Bit 7.", 6 DB6 (in) "Data Bit 6.", 7 DB5 (in) "Data Bit 5.", 8 DB4 (in) "Data Bit 4.", 9 DB3 (in) "Data Bit 3.", 10 DB2 (in) "Data Bit 2.", 11 DB1 (in) "Data Bit 1.", 12 DB0 (in) "Least Significant Data Bit (LSB).", 13 NC "No Internal Connection.", 14 NC "No Internal Connection.", 15 SLEEP (in) "Power-Down Control Input. Active High. Contains active pull-down circuit; it may be left unterminated if not used.", 16 REFLO "Reference Ground when Internal 1.2 V Reference Used. Connect to AVDD to disable internal reference.", 17 REFIO (io) "Reference Input/Output. Serves as reference input when internal reference disabled (i.e., Tie REFLO to AVDD). Serves as 1.2 V reference output when internal reference activated (i.e., Tie REFLO to ACOM). Requires 0.1 uF (See Datasheet)", 18 FS ADJ (in) "Full-Scale Current Output Adjust.", 19 NC "No Internal Connection.", 20 ACOM (power) "Analog Common.", 21 IOUTB (hiz) "Complementary DAC Current Output. Full-scale current when all data bits are 0s.", 22 IOUTA (hiz) "DAC Current Output. Full-scale current when all data bits are 1s.", 23 ICOMP "Internal Bias Node for Switch Driver Circuitry. Decouple to ACOM with 0.1 uF capacitor.", 24 AVDD (power) "Analog Supply Voltage (+4.5 V to +5.5 V).", 25 NC "No Internal Connection.", 26 DCOM (power) "Digital Common.", 27 DVDD (power) "Digital Supply Voltage (+2.7 V to +5.5 V).", 28 CLOCK (in) "Clock Input. Data latched on positive edge of clock."

## AD9752ARZ
designator U?
Single 12-Bit TxDAC, 125 Msps, -40 to +85 degC, RW-28, Pb-Free, Tube; Generic Part Number: AD9752; Manufacturer: Analog Devices; PartNumber: AD9752ARZ; # DAC Outputs: 1; Max V+: 5.5V; Op Pwr Diss: 220mW; Resolution (Bits): 12; Settling Time: 35ns; Single Supply: Yes; DatasheetVersion: Rev.0; PackageVersion: 060706-A; PackageReference: RW-28; PackageDescription: 28-Lead Standard Small Outline Package [SOIC_W]; Supplier 1: Digi-Key; Supplier Part Number 1: AD9752ARZ-ND; Supplier 2: Farnell; Supplier Part Number 2: 9603883; Supplier 3: Newark; Supplier Part Number 3: 59K7361; Supplier 4: Mouser; Supplier Part Number 4: 584-AD9752ARZ; Packing: Tube; RoHS: Y; Mounting Technology: Surface Mount; Code_JEDEC: MS-013-AE; ComponentLink1Description: Manufacturer URL; ComponentLink1URL: http://www.analog.com/en/index.html; ComponentLink2Description: Datasheet; ComponentLink2URL: http://www.analog.com/static/imported-files/data_sheets/AD9752.pdf; ComponentLink3Description: Product URL; ComponentLink3URL: http://www.analog.com/en/digital-to-analog-converters/da-converters/ad9752/products/product.html
footprint RW-28_N (SOIC, 28-Leads, Body 17.9x7.5mm, Pitch 1.27mm, IPC Medium Density)
footprint RW-28_L (SOIC, 28-Leads, Body 17.9x7.5mm, Pitch 1.27mm, IPC High Density)
footprint RW-28_M (SOIC, 28-Leads, Body 17.9x7.5mm, Pitch 1.27mm, IPC Low Density)
pins: 1 DB11 (in) "Most Significant Data Bit (MSB).", 2 DB10 (in) "Data Bit 10", 3 DB9 (in) "Data Bit 9", 4 DB8 (in) "Data Bit 8", 5 DB7 (in) "Data Bit 7", 6 DB6 (in) "Data Bit 6", 7 DB5 (in) "Data Bit 5", 8 DB4 (in) "Data Bit 4", 9 DB3 (in) "Data Bit 3", 10 DB2 (in) "Data Bit 2", 11 DB1 (in) "Data Bit 1", 12 DB0 (in) "Least Significant Data Bit (LSB).", 13 NC "No Internal Connection.", 14 NC "No Internal Connection.", 15 SLEEP (in) "Power-Down Control Input. Active High. Contains active pull-down circuit; it may be left unterminated if not used.", 16 REFLO "Reference Ground when Internal 1.2 V Reference Used. Connect to AVDD to disable internal reference.", 17 REFIO (io) "Reference Input/Output. Serves as reference input when internal reference disabled (i.e., Tie REFLO to AVDD). Serves as 1.2 V reference output when internal reference activated (i.e., Tie REFLO to ACOM). Requires 0.1 uF (See Datasheet)", 18 FS ADJ (in) "Full-Scale Current Output Adjust.", 19 NC "No Internal Connection.", 20 ACOM (power) "Analog Common.", 21 IOUTB (hiz) "Complementary DAC Current Output. Full-scale current when all data bits are 0s.", 22 IOUTA (hiz) "DAC Current Output. Full-scale current when all data bits are 1s.", 23 ICOMP "Internal Bias Node for Switch Driver Circuitry. Decouple to ACOM with 0.1 uF capacitor.", 24 AVDD (power) "Analog Supply Voltage (+4.5 V to +5.5 V).", 25 NC "No Internal Connection.", 26 DCOM (power) "Digital Common.", 27 DVDD (power) "Digital Supply Voltage (+2.7 V to +5.5 V).", 28 CLOCK (in) "Clock Input. Data latched on positive edge of clock."

## AD9752ARZRL
designator U?
Single 12-Bit TxDAC, 125 Msps, -40 to +85 degC, RW-28, Pb-Free, Reel; Generic Part Number: AD9752; Manufacturer: Analog Devices; PartNumber: AD9752ARZRL; # DAC Outputs: 1; Max V+: 5.5V; Op Pwr Diss: 220mW; Resolution (Bits): 12; Settling Time: 35ns; Single Supply: Yes; DatasheetVersion: Rev.0; PackageVersion: 060706-A; PackageReference: RW-28; PackageDescription: 28-Lead Standard Small Outline Package [SOIC_W]; Supplier 1: Digi-Key; Supplier Part Number 1: AD9752ARZRL-ND; Supplier 2: Mouser; Supplier Part Number 2: 584-AD9752ARZR; Packing: Reel; RoHS: Y; Mounting Technology: Surface Mount; Code_JEDEC: MS-013-AE; ComponentLink1Description: Manufacturer URL; ComponentLink1URL: http://www.analog.com/en/index.html; ComponentLink2Description: Datasheet; ComponentLink2URL: http://www.analog.com/static/imported-files/data_sheets/AD9752.pdf; ComponentLink3Description: Product URL; ComponentLink3URL: http://www.analog.com/en/digital-to-analog-converters/da-converters/ad9752/products/product.html
footprint RW-28_N (SOIC, 28-Leads, Body 17.9x7.5mm, Pitch 1.27mm, IPC Medium Density)
footprint RW-28_L (SOIC, 28-Leads, Body 17.9x7.5mm, Pitch 1.27mm, IPC High Density)
footprint RW-28_M (SOIC, 28-Leads, Body 17.9x7.5mm, Pitch 1.27mm, IPC Low Density)
pins: 1 DB11 (in) "Most Significant Data Bit (MSB).", 2 DB10 (in) "Data Bit 10", 3 DB9 (in) "Data Bit 9", 4 DB8 (in) "Data Bit 8", 5 DB7 (in) "Data Bit 7", 6 DB6 (in) "Data Bit 6", 7 DB5 (in) "Data Bit 5", 8 DB4 (in) "Data Bit 4", 9 DB3 (in) "Data Bit 3", 10 DB2 (in) "Data Bit 2", 11 DB1 (in) "Data Bit 1", 12 DB0 (in) "Least Significant Data Bit (LSB).", 13 NC "No Internal Connection.", 14 NC "No Internal Connection.", 15 SLEEP (in) "Power-Down Control Input. Active High. Contains active pull-down circuit; it may be left unterminated if not used.", 16 REFLO "Reference Ground when Internal 1.2 V Reference Used. Connect to AVDD to disable internal reference.", 17 REFIO (io) "Reference Input/Output. Serves as reference input when internal reference disabled (i.e., Tie REFLO to AVDD). Serves as 1.2 V reference output when internal reference activated (i.e., Tie REFLO to ACOM). Requires 0.1 uF (See Datasheet)", 18 FS ADJ (in) "Full-Scale Current Output Adjust.", 19 NC "No Internal Connection.", 20 ACOM (power) "Analog Common.", 21 IOUTB (hiz) "Complementary DAC Current Output. Full-scale current when all data bits are 0s.", 22 IOUTA (hiz) "DAC Current Output. Full-scale current when all data bits are 1s.", 23 ICOMP "Internal Bias Node for Switch Driver Circuitry. Decouple to ACOM with 0.1 uF capacitor.", 24 AVDD (power) "Analog Supply Voltage (+4.5 V to +5.5 V).", 25 NC "No Internal Connection.", 26 DCOM (power) "Digital Common.", 27 DVDD (power) "Digital Supply Voltage (+2.7 V to +5.5 V).", 28 CLOCK (in) "Clock Input. Data latched on positive edge of clock."

## AD9753ASTZ
designator U?
Single 12-Bit TxDAC+, 300 Msps, -40 to +85 degC, ST-48, Pb-Free, Tray; Generic Part Number: AD9753; Manufacturer: Analog Devices; PartNumber: AD9753ASTZ; # DAC Outputs: 1; Max V+: 3.6V; Op Pwr Diss: 165mW; Resolution (Bits): 12; Settling Time: 11ns; Single Supply: Yes; DatasheetVersion: Rev.B; PackageVersion: revA; PackageReference: ST-48; PackageDescription: 48-Pin Thin Quad Flat Pack 0.5 mm Pitch; Supplier 1: Digi-Key; Supplier Part Number 1: AD9753ASTZ-ND; Supplier 2: Newark; Supplier Part Number 2: 59K7363; Supplier 3: Mouser; Supplier Part Number 3: 584-AD9753ASTZ; Packing: Tray; RoHS: Y; Mounting Technology: Surface Mount; ComponentLink1Description: Manufacturer URL; ComponentLink1URL: http://www.analog.com/en/index.html; ComponentLink2Description: Datasheet; ComponentLink2URL: http://www.analog.com/static/imported-files/data_sheets/AD9753.pdf; ComponentLink3Description: Package Specification; ComponentLink3URL: http://www.analog.com/static/imported-files/packages/PKG_PDF/LQFP%28ST%29/ST_48.pdf; ComponentLink4Description: Product URL; ComponentLink4URL: http://www.analog.com/en/digital-to-analog-converters/da-converters/ad9753/products/product.html
footprint ST-48_N (Thin QFP, 48-Leads, Body 7x7mm, Pitch 0.5mm, IPC Medium Density)
footprint ST-48_L (Thin QFP, 48-Leads, Body 7x7mm, Pitch 0.5mm, IPC High Density)
footprint ST-48_M (Thin QFP, 48-Leads, Body 7x7mm, Pitch 0.5mm, IPC Low Density)
pins: 1 RESET (in) "Internal Clock Divider Reset", 2 CLK+ (in) "Differential Clock Input", 3 CLK- (in) "Differential Clock Input", 4 DCOM (power) "Digital Common", 5 DVDD (power) "Digital Supply Voltage", 6 PLLLOCK (out) "Phase-Locked Loop Lock Indicator Output", 7 P1B11 (in) "Data Bit P1B11, Port 1", 8 P1B10 (in) "Data Bit P1B10, Port 1", 9 P1B9 (in) "Data Bit P1B9, Port 1", 10 P1B8 (in) "Data Bit P1B8, Port 1", 11 P1B7 (in) "Data Bit P1B7, Port 1", 12 P1B6 (in) "Data Bit P1B6, Port 1", 13 P1B5 (in) "Data Bit P1B5, Port 1", 14 P1B4 (in) "Data Bit P1B4, Port 1", 15 P1B3 (in) "Data Bit P1B3, Port 1", 16 P1B2 (in) "Data Bit P1B2, Port 1", 17 P1B1 (in) "Data Bit P1B1, Port 1", 18 P1B0 (in) "Data Bit P1B0, Port 1", 19 RESERVED "No user connections", 20 RESERVED "No user connections", 21 DVDD (power) "Digital Supply Voltage", 22 DCOM (power) "Digital Common", 23 P2B11 (in) "Data Bit P2B11, Port 2", 24 P2B10 (in) "Data Bit P2B10, Port 2", 25 P2B9 (in) "Data Bit P2B9, Port 2", 26 P2B8 (in) "Data Bit P2B8, Port 2", 27 P2B7 (in) "Data Bit P2B7, Port 2", 28 P2B6 (in) "Data Bit P2B6, Port 2", 29 P2B5 (in) "Data Bit P2B5, Port 2", 30 P2B4 (in) "Data Bit P2B4, Port 2", 31 P2B3 (in) "Data Bit P2B3, Port 2", 32 P2B2 (in) "Data Bit P2B2, Port 2", 33 P2B1 (in) "Data Bit P2B1, Port 2", 34 P2B0 (in) "Data Bit P2B0, Port 2", 35 RESERVED "No user connections", 36 RESERVED "No user connections", 37 DIV0 (in) "Control Inputs for PLL and Input Port Selector Mode; see Tables I and II for details.", 38 DIV1 (in) "Control Inputs for PLL and Input Port Selector Mode; see Tables I and II for details.", 39 REFIO (io) "Reference Input/Output", 40 FSADJ (in) "Full-Scale Current Output Adjust", 41 AVDD (power) "Analog Supply Voltage", 42 IOUTB (out) "Differential DAC Current Output", 43 IOUTA (out) "Differential DAC Current Output", 44 ACOM (power) "Analog Common", 45 CLKCOM (power) "Clock and Phase-Locked Loop Common", 46 LPF (in) "Phase-Locked Loop Filter", 47 PLLVDD (power) "Phase-Locked Loop Supply Voltage", 48 CLKVDD (power) "Clock Supply Voltage"

## AD9753ASTZRL
designator U?
Single 12-Bit TxDAC+, 300 Msps, -40 to +85 degC, ST-48, Pb-Free, Reel; Generic Part Number: AD9753; Manufacturer: Analog Devices; PartNumber: AD9753ASTZRL; # DAC Outputs: 1; Max V+: 3.6V; Op Pwr Diss: 165mW; Resolution (Bits): 12; Settling Time: 11ns; Single Supply: Yes; DatasheetVersion: Rev.B; PackageVersion: revA; PackageReference: ST-48; PackageDescription: 48-Pin Thin Quad Flat Pack 0.5 mm Pitch; Supplier 1: Digi-Key; Supplier Part Number 1: AD9753ASTZRL-ND; Supplier 2: Mouser; Supplier Part Number 2: 584-AD9753ASTZR; Packing: Reel; RoHS: Y; Mounting Technology: Surface Mount; ComponentLink1Description: Manufacturer URL; ComponentLink1URL: http://www.analog.com/en/index.html; ComponentLink2Description: Datasheet; ComponentLink2URL: http://www.analog.com/static/imported-files/data_sheets/AD9753.pdf; ComponentLink3Description: Package Specification; ComponentLink3URL: http://www.analog.com/static/imported-files/packages/PKG_PDF/LQFP%28ST%29/ST_48.pdf; ComponentLink4Description: Product URL; ComponentLink4URL: http://www.analog.com/en/digital-to-analog-converters/da-converters/ad9753/products/product.html
footprint ST-48_N (Thin QFP, 48-Leads, Body 7x7mm, Pitch 0.5mm, IPC Medium Density)
footprint ST-48_L (Thin QFP, 48-Leads, Body 7x7mm, Pitch 0.5mm, IPC High Density)
footprint ST-48_M (Thin QFP, 48-Leads, Body 7x7mm, Pitch 0.5mm, IPC Low Density)
pins: 1 RESET (in) "Internal Clock Divider Reset", 2 CLK+ (in) "Differential Clock Input", 3 CLK- (in) "Differential Clock Input", 4 DCOM (power) "Digital Common", 5 DVDD (power) "Digital Supply Voltage", 6 PLLLOCK (out) "Phase-Locked Loop Lock Indicator Output", 7 P1B11 (in) "Data Bit P1B11, Port 1", 8 P1B10 (in) "Data Bit P1B10, Port 1", 9 P1B9 (in) "Data Bit P1B9, Port 1", 10 P1B8 (in) "Data Bit P1B8, Port 1", 11 P1B7 (in) "Data Bit P1B7, Port 1", 12 P1B6 (in) "Data Bit P1B6, Port 1", 13 P1B5 (in) "Data Bit P1B5, Port 1", 14 P1B4 (in) "Data Bit P1B4, Port 1", 15 P1B3 (in) "Data Bit P1B3, Port 1", 16 P1B2 (in) "Data Bit P1B2, Port 1", 17 P1B1 (in) "Data Bit P1B1, Port 1", 18 P1B0 (in) "Data Bit P1B0, Port 1", 19 RESERVED "No user connections", 20 RESERVED "No user connections", 21 DVDD (power) "Digital Supply Voltage", 22 DCOM (power) "Digital Common", 23 P2B11 (in) "Data Bit P2B11, Port 2", 24 P2B10 (in) "Data Bit P2B10, Port 2", 25 P2B9 (in) "Data Bit P2B9, Port 2", 26 P2B8 (in) "Data Bit P2B8, Port 2", 27 P2B7 (in) "Data Bit P2B7, Port 2", 28 P2B6 (in) "Data Bit P2B6, Port 2", 29 P2B5 (in) "Data Bit P2B5, Port 2", 30 P2B4 (in) "Data Bit P2B4, Port 2", 31 P2B3 (in) "Data Bit P2B3, Port 2", 32 P2B2 (in) "Data Bit P2B2, Port 2", 33 P2B1 (in) "Data Bit P2B1, Port 2", 34 P2B0 (in) "Data Bit P2B0, Port 2", 35 RESERVED "No user connections", 36 RESERVED "No user connections", 37 DIV0 (in) "Control Inputs for PLL and Input Port Selector Mode; see Tables I and II for details.", 38 DIV1 (in) "Control Inputs for PLL and Input Port Selector Mode; see Tables I and II for details.", 39 REFIO (io) "Reference Input/Output", 40 FSADJ (in) "Full-Scale Current Output Adjust", 41 AVDD (power) "Analog Supply Voltage", 42 IOUTB (out) "Differential DAC Current Output", 43 IOUTA (out) "Differential DAC Current Output", 44 ACOM (power) "Analog Common", 45 CLKCOM (power) "Clock and Phase-Locked Loop Common", 46 LPF (in) "Phase-Locked Loop Filter", 47 PLLVDD (power) "Phase-Locked Loop Supply Voltage", 48 CLKVDD (power) "Clock Supply Voltage"